# EAGLE library part USB3300 (library ic-SMSC)
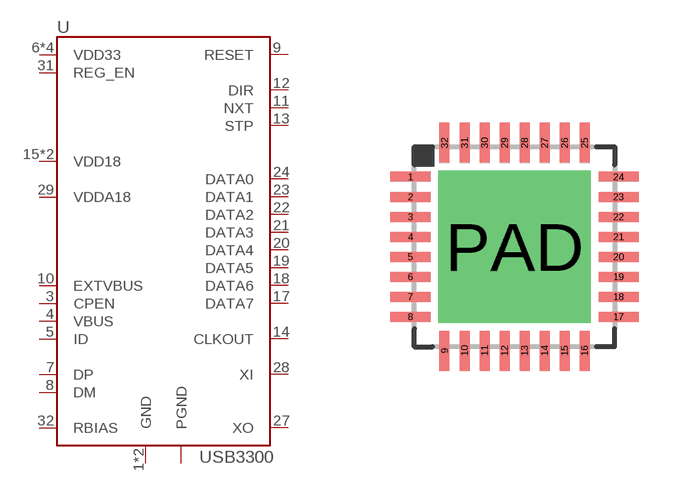
[diagram p0: symbol with the pads of QFN32-0.5-PAD; footprint QFN32-0.5-PAD]

Designator prefix U

## USB3300  [QFN32-0.5-PAD]
1  GND
2  GND
3  CPEN
4  VBUS
5  ID
6  VDD33
7  DP
8  DM
9  RESET
10  EXTVBUS
11  NXT
12  DIR
13  STP
14  CLKOUT
15  VDD18
16  VDD33
17  DATA7
18  DATA6
19  DATA5
20  DATA4
21  DATA3
22  DATA2
23  DATA1
24  DATA0
25  VDD33
26  VDD18
27  XO
28  XI
29  VDDA18
30  VDD33
31  REG_EN
32  RBIAS
PAD  PGND

## Footprint QFN32-0.5-PAD (pad centres in mm)
smd 1 x 0.25: 1 -2.6,1.75; 2 -2.6,1.25; 3 -2.6,0.75; 4 -2.6,0.25; 5 -2.6,-0.25; 6 -2.6,-0.75; 7 -2.6,-1.25; 8 -2.6,-1.75; 17 2.6,-1.75; 18 2.6,-1.25; 19 2.6,-0.75; 20 2.6,-0.25; 21 2.6,0.25; 22 2.6,0.75; 23 2.6,1.25; 24 2.6,1.75
smd 0.25 x 1: 9 -1.75,-2.6; 10 -1.25,-2.6; 11 -0.75,-2.6; 12 -0.25,-2.6; 13 0.25,-2.6; 14 0.75,-2.6; 15 1.25,-2.6; 16 1.75,-2.6; 25 1.75,2.6; 26 1.25,2.6; 27 0.75,2.6; 28 0.25,2.6; 29 -0.25,2.6; 30 -0.75,2.6; 31 -1.25,2.6; 32 -1.75,2.6
drill 2.8 pad 3.5 square: PAD 0,0